# Altium footprint library CONSMA001G.PcbLib: 1 footprints
Each footprint in its own frame and in the unit in brackets; x right, y up, seen from the top. Pads: shape width x height; smd on the part's side, far side on the other; paste and mask are expansions set on the pad; w line width, h text height; cw(c..) or ccw(c..) is an arc to the next point about the centre after c.
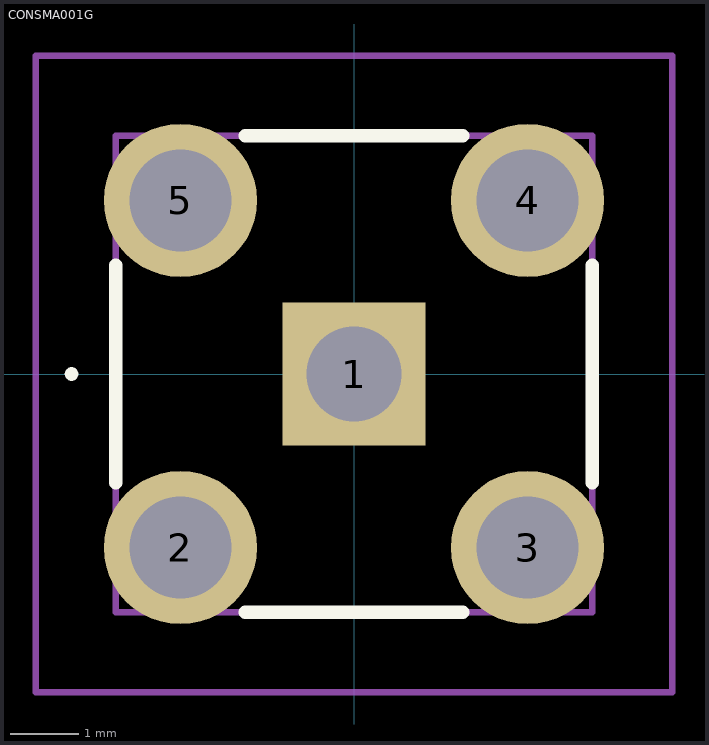
[diagram p0: the footprint, top view; thin cyan lines are the x and y axes]

## CONSMA001G [mm]
pads (5):
  rect 2.1x2.1 hole 1.4: 1(0,0)
  round 2.25 hole 1.5: 2(-2.55,-2.55) 3(2.55,-2.55) 4(2.55,2.55) 5(-2.55,2.55)
Top Overlay:
  lines w0.1: -4.2,0 cw(c-4.15,0) -4.1,0 ; -4.2,0 -4.2,0 ; -4.2,0 ccw(c-4.15,0) -4.1,0 ; -4.1,0 -4.1,0
  lines w0.2: -3.5,-1.6 -3.5,1.6 ; -1.6,-3.5 1.6,-3.5 ; -1.6,3.5 1.6,3.5 ; 3.5,-1.6 3.5,1.6
Mechanical 15:
  lines w0.1: -3.5,-3.5 3.5,-3.5 3.5,3.5 -3.5,3.5 -3.5,-3.5
Mechanical 20:
  lines w0.1: -4.675,-4.675 4.675,-4.675 4.675,4.675 -4.675,4.675 -4.675,-4.675